# EAGLE library part BALUN (library deiring-components)
SMD Antenna
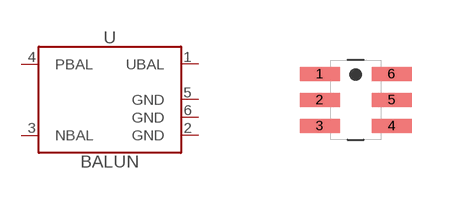
[diagram p39: symbol with the pads of SMD-BULK; footprint SMD-BULK]

Designator prefix U

## BALUN-BULK (LCSC: C114062; MF: Johanson Dielectrics; MPN: 2450BM15A0002E; VALUE: 2.45GHz)  [SMD-BULK]
1  UBAL
2  GND
3  NBAL
4  PBAL
5  GND
6  GND

## Footprint SMD-BULK (pad centres in mm)
smd 1 x 0.35: 1 -0.9,0.65; 2 -0.9,0; 3 -0.9,-0.65; 4 0.9,-0.65; 5 0.9,0; 6 0.9,0.65